# Altium footprint library IMTP Конденсаторы.PcbLib: 23 footprints (part 1 of 2)
Each footprint in its own frame and in the unit in brackets; x right, y up, seen from the top. Pads: shape width x height; smd on the part's side, far side on the other; paste and mask are expansions set on the pad; w line width, h text height; cw(c..) or ccw(c..) is an arc to the next point about the centre after c.
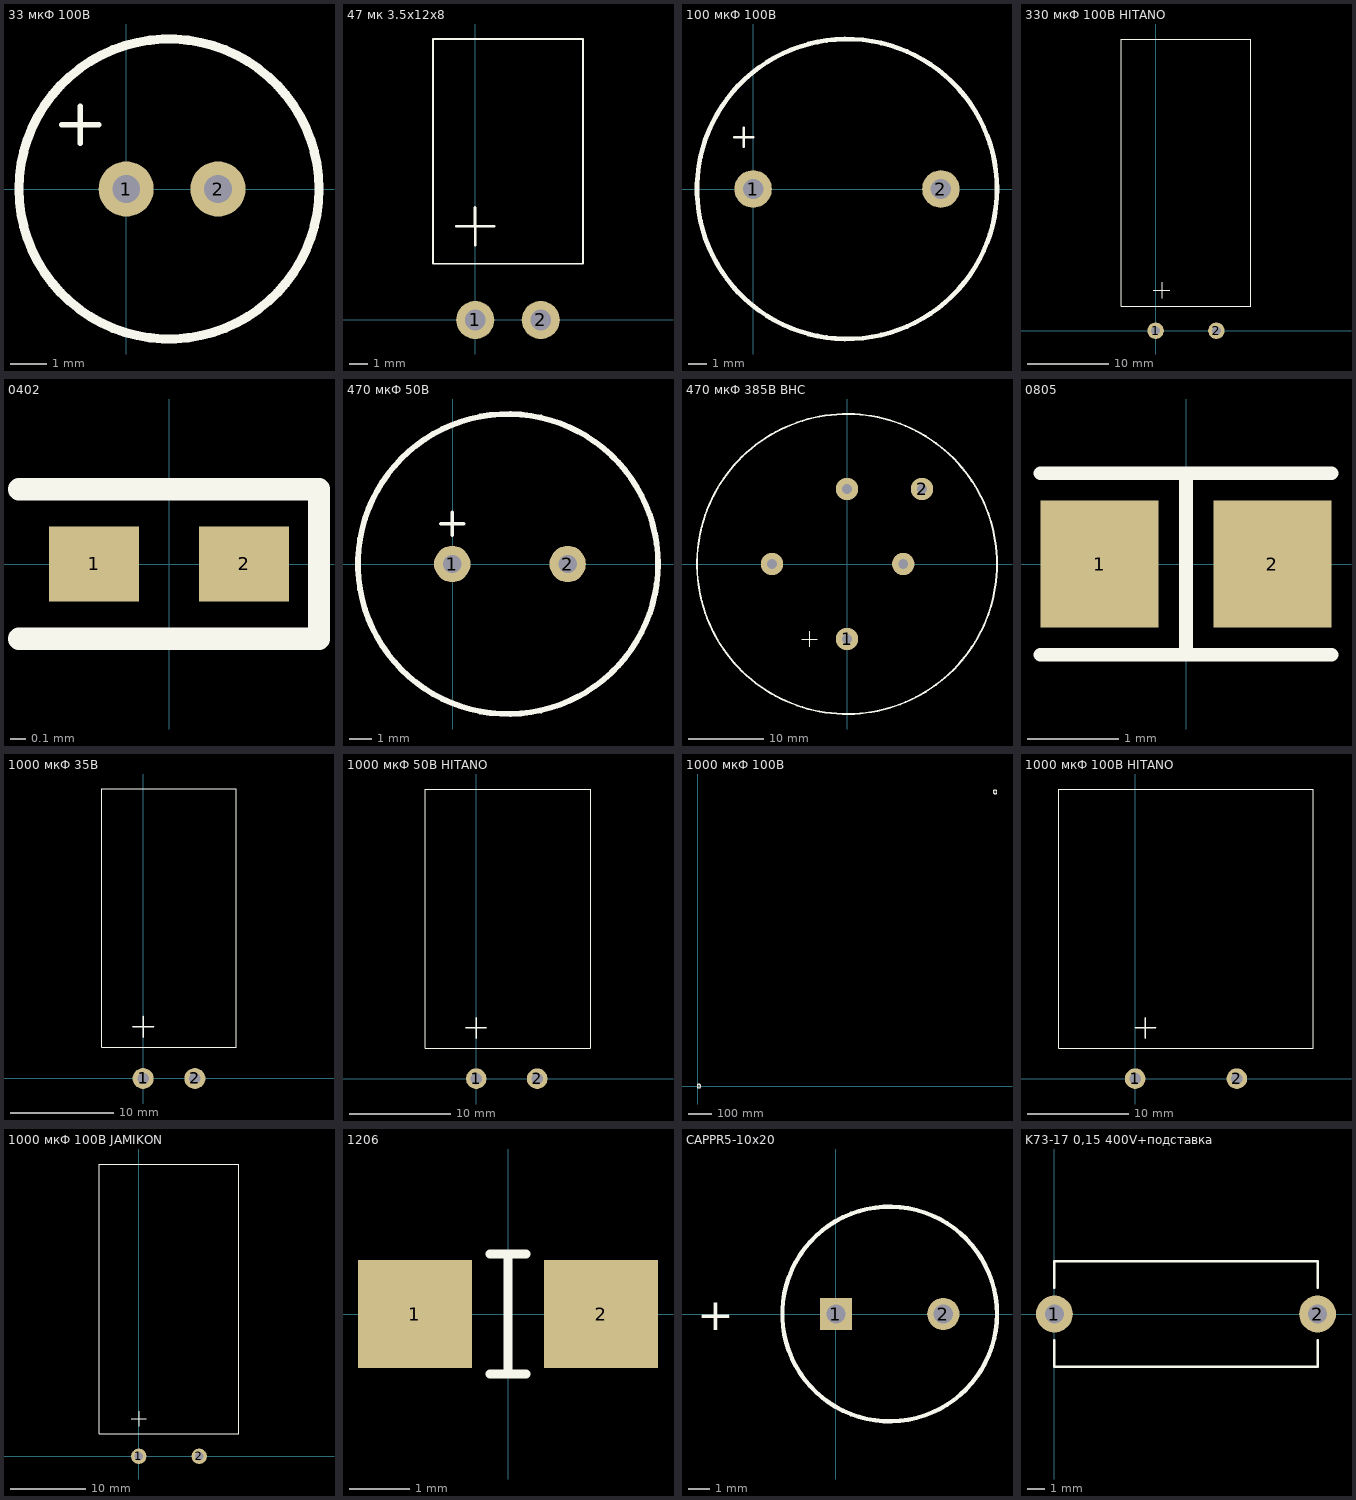
[diagram p0: the footprints below, top view; thin cyan lines are the x and y axes]

## 33 мкФ 100В [mil]
height 492.13
pads (2):
  round 60 hole 30: 1(0,0) 2(100,0)
Top Overlay:
  circle w10: c46.61,0 r163.39
  lines w5.91: -70,70 -30,70 ; -50,50 -50,90
3D body: height 0, standoff -118.11, extent 90.39,-9.82 110,9.82
3D body: height 0, standoff -118.11, extent -10,-10 9.61,9.65
3D body: height 492.13, standoff 0, extent -111.56,-161.1 210,161.1

## 47 мк 3.5x12x8 [mil]
pads (2):
  round 80 hole 43.31: 1(0,0) 2(137.8,0)
Top Overlay:
  lines w3.94: -88.58,118.11 226.38,118.11 226.38,590.55 -88.58,590.55 -88.58,118.11
  lines w5.91: -40,196.85 39.37,196.85 ; -0.27,236.22 0,157.48
3D body: height 156.24, standoff -157.48, extent -88.27,118.11 226.07,590.55

## 100 мкФ 100В [mil] "проба"
height 1377.95
pads (2):
  round 80 hole 43.31: 1(0,0) 2(400,0)
Top Overlay:
  circle w10: c200,0 r319.53
  lines w5.91: -40,110 0,110 ; -20,90 -20,130
3D body: height 0, standoff -118.11, extent 390,-9.82 409.61,9.82
3D body: height 0, standoff -118.11, extent -10,-10 9.61,9.65
3D body: height 1377.95, standoff 0, extent -117.64,-320 517.64,316.54

## 330 мкФ 100В HITANO [mil]
pads (2):
  round 80 hole 43.31: 1(0,0) 2(295.28,0)
Top Overlay:
  lines w3.94: -167.32,118.11 -167.32,1417.32 462.6,1417.32 462.6,118.11 -167.32,118.11
  lines w5.91: -10.47,196.85 68.9,196.85 ; 29.25,236.22 29.53,157.48
3D body: height -236.22, standoff -275.59, extent 275.59,-19.68 314.96,118.11
3D body: height -236.22, standoff -275.59, extent -19.68,-19.68 19.68,118.11
3D body: height 629.3, standoff 0.62, extent -164.84,118.11 462.6,1417.32
3D body: height 236.22, standoff -157.48, extent 275.59,-19.69 314.96,19.68
3D body: height 236.22, standoff -157.48, extent -19.68,-19.69 19.69,19.68

## 0402 [mm] "Chip Capacitor, Body 1.0x0.5mm, IPC High Density"
height 0.6
pads (2):
  rect 0.6x0.5 smd: 1(-0.5,0) 2(0.5,0)
Top Overlay:
  lines w0.15: -1,-0.5 0.9,-0.5 1,-0.5 1,0.5 0.9,0.5 -1,0.5
3D body: height 0.6, standoff 0, extent -0.55,-0.3 0.55,0.3

## 470 мкФ 50В [mm]
height 12.5
pads (2):
  round 1.6 hole 0.8: 1(-0.02,0) 2(5.06,0)
Top Overlay:
  circle w0.254: c2.434,0 r6.6
  lines w0.15: -0.528,1.778 0.488,1.778 ; -0.02,1.27 -0.02,2.286
3D body: height 0, standoff -3, extent 4.816,-0.25 5.314,0.25
3D body: height 0, standoff -3, extent -0.274,-0.25 0.224,0.25
3D body: height 21, standoff 0, extent -4.124,-6.632 9.024,6.542

## 470 мкФ 385В BHC [mm]
height 58
pads (5):
  round 3 hole 1.3: 1(0,-10) 2(10,10) ""(-10,0) ""(0,10) ""(7.5,0)
Top Overlay:
  circle w0.254: c0,0 r20
  lines w0.15: -6.016,-10 -4,-10 ; -5,-11 -5,-9
3D body: height 5, standoff -5, extent 7,-0.5 8,0.5
3D body: height 5, standoff -5, extent 9.5,9.5 10.5,10.5
3D body: height 5, standoff -5, extent -0.5,9.5 0.5,10.5
3D body: height 5, standoff -5, extent -10.5,-0.5 -9.5,0.5
3D body: height 5, standoff -5, extent -0.5,-10.5 0.5,-9.5
3D body: height 58, standoff 0, extent -20,-20 19.842,19.921

## 0805 [mm] "Чип резистор; Размер 2 x 1.3 мм (Д x Ш)"
height 0.6
pads (2):
  rect 1.3x1.4 smd: 1(-0.95,0) 2(0.95,0)
Top Overlay:
  lines w0.15: -1.6,-1 1.6,-1 ; -1.6,1 1.6,1 ; 0,-1 0,1
3D body: height 0.93, standoff -0.01, extent -1.5,-0.7 1.5,0.7

## 1000 мкФ 35В [mil]
height 511.81
pads (2):
  round 80 hole 43.31: 1(0,0) 2(196.85,0)
Top Overlay:
  lines w3.94: -157.48,118.11 -157.48,1102.36 354.33,1102.36 354.33,118.11 -157.48,118.11
  lines w5.91: -40,196.85 39.37,196.85 ; -0.27,236.22 0,157.48
3D body: height -236.22, standoff -275.59, extent 177.17,-19.69 216.54,118.11
3D body: height -236.22, standoff -275.59, extent -19.68,-19.68 19.68,118.11
3D body: height 511.31, standoff 0.51, extent -157.48,118.11 352.31,1102.36
3D body: height 236.22, standoff -157.48, extent 177.17,-19.69 216.54,19.68
3D body: height 236.22, standoff -157.48, extent -19.68,-19.69 19.69,19.68

## 1000 мкФ 50В HITANO [mil]
pads (2):
  round 80 hole 43.31: 1(0,0) 2(236.22,0)
Top Overlay:
  lines w3.94: 440.94,118.11 -196.85,118.11 -196.85,1122.05 442.91,1122.05 442.91,118.11
  lines w5.91: -40,196.85 39.37,196.85 ; -0.27,236.22 0,157.48
3D body: height 236.22, standoff -157.48, extent -19.68,-19.69 19.69,19.68
3D body: height 236.22, standoff -157.48, extent 216.54,-19.69 255.91,19.68
3D body: height 637.17, standoff 0.63, extent -196.85,118.11 438.43,1122.05
3D body: height -236.22, standoff -275.59, extent -19.68,-19.68 19.68,118.11
3D body: height -236.22, standoff -275.59, extent 216.54,-19.68 255.91,118.11

## 1000 мкФ 100В [mil] "проба"
height 1377.95
pads (4):
  round 80 hole 43.31: 1(0,0) 1(50290,49995) 2(300,0) 2(50690,49995)
Top Overlay:
  circle w10: c150.47,0 r319.53
  circle w10: c50490,49995 r319.53
  lines w5.91: -40,110 0,110 ; -20,90 -20,130 ; 50250,50105 50290,50105 ; 50270,50085 50270,50125
3D body: height 0, standoff -118.11, extent 290.39,-9.82 310,9.82
3D body: height 0, standoff -118.11, extent -10,-10 9.61,9.65
3D body: height 1377.95, standoff 0, extent -165.28,-320 470,316.54
3D body: height 1377.95, standoff 0, extent 50172.36,49675 50807.64,50311.54
3D body: height 0, standoff -118.11, extent 50280,49985 50299.61,50004.65
3D body: height 0, standoff -118.11, extent 50680,49985.18 50699.61,50004.82

## 1000 мкФ 100В HITANO [mil]
pads (2):
  round 80 hole 43.31: 1(0,0) 2(393.7,0)
Top Overlay:
  lines w3.94: -295.28,118.11 688.98,118.11 688.98,1122.05 -295.28,1122.05 -295.28,118.11
  lines w5.91: -0.63,196.85 78.74,196.85 ; 39.1,236.22 39.37,157.48
3D body: height -236.22, standoff -275.59, extent 374.02,-19.68 413.39,118.11
3D body: height -236.22, standoff -275.59, extent -19.68,-19.68 19.68,118.11
3D body: height 983.28, standoff 0.97, extent -293.33,118.11 687.04,1122.04
3D body: height 236.22, standoff -157.48, extent 374.02,-19.69 413.39,19.68
3D body: height 236.22, standoff -157.48, extent -19.68,-19.69 19.69,19.68

## 1000 мкФ 100В JAMIKON [mil]
pads (2):
  round 80 hole 43.31: 1(0,0) 2(314.96,0)
Top Overlay:
  lines w3.94: -206.69,118.11 521.65,118.11 521.65,1525.59 -206.69,1525.59 -206.69,118.11
  lines w5.91: -40,196.85 39.37,196.85 ; -0.27,236.22 0,157.48
3D body: height 236.22, standoff -157.48, extent -19.68,-19.69 19.69,19.68
3D body: height 236.22, standoff -157.48, extent 295.28,-19.69 334.65,19.68
3D body: height 682.35, standoff -44.56, extent -205.26,116.14 520.22,1525.59
3D body: height -236.22, standoff -275.59, extent -19.68,-19.68 19.68,118.11
3D body: height -236.22, standoff -275.59, extent 295.28,-19.68 334.65,118.11

## 1206 [mm] "Чип резистор; Размер 3.2 x 1.6 мм (Д x Ш)"
height 0.7
pads (2):
  rect 1.9x1.8 smd: 1(-1.55,0) 2(1.55,0)
Top Overlay:
  lines w0.15: -0.3,-1 0.3,-1 ; -0.3,1 0.3,1 ; 0,-1 0,1
3D body: height 0.37, standoff 0, extent -0.8,-0.401 0.8,0.401
3D body: height 1, standoff 0, extent -1.5,-0.8 1.7,0.8

## CAPPR5-10x20 [mm] "Capacitor, Electrolytic, Radial; Body 10 x 20 mm (Dia.xH typ); Pin Spacing 5 mm (typ)"
height 22
pads (2):
  rect 1.5x1.5 hole 0.9: 1(0,0)
  round 1.5 hole 0.9: 2(5,0)
Top Overlay:
  circle w0.2: c2.5,0 r5
  text "+" at -6.475,-0.75 h1.5
3D body: height 20.55, standoff -2.5, extent -2.466,-4.992 7.547,4.992

## K73-17 0,15 400V+подставка [mm]
pads (2):
  round 2.1 hole 1.1: 1(0,0) 2(15,0)
Top Overlay:
  lines w0.15: 0,-1.5 0,-3 15,-3 15,-1.5 ; 0,1.5 0,3 15,3 15,1.5
3D body: height 19, standoff 0, extent 0,-3 15,3